# Altium integrated library Analog Devices Data Converters Analog-to-Digital Converters.IntLib: 2400 symbols (part 241 of 338)
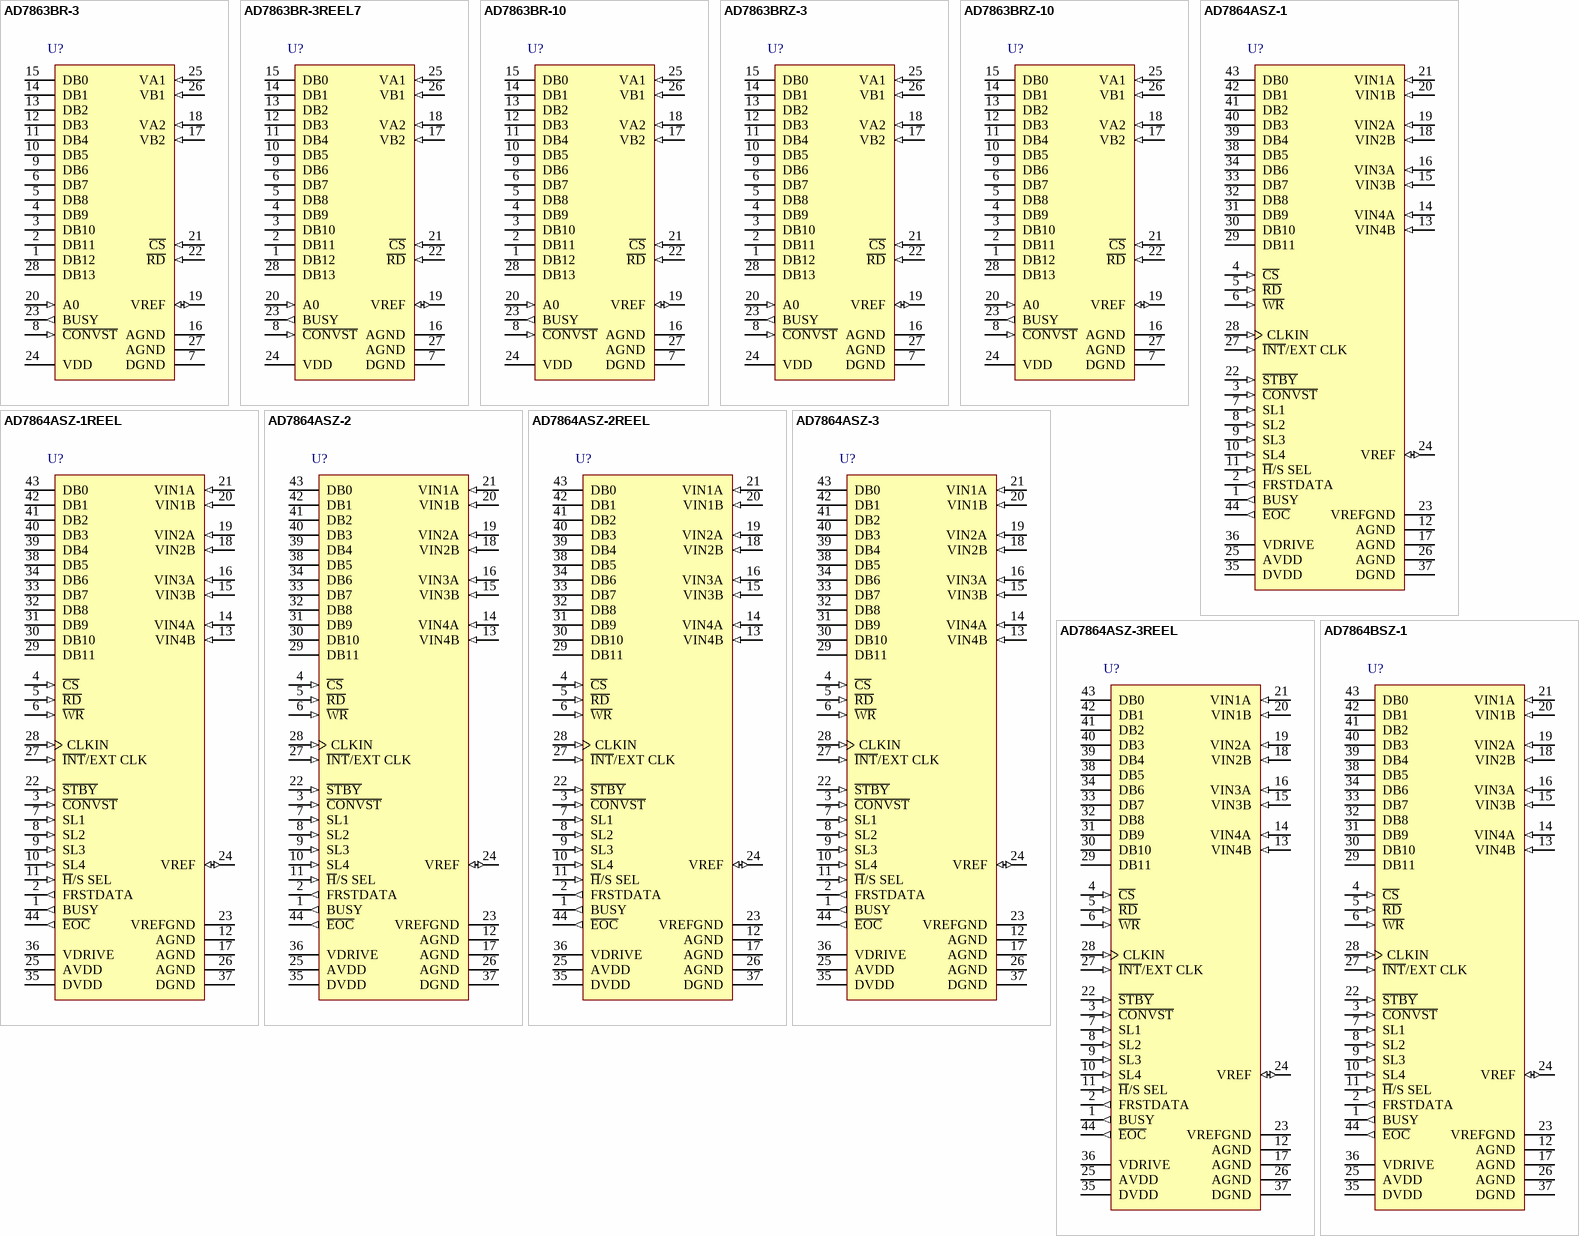
[diagram p286: symbols AD7863BR-3 to AD7864BSZ-1]

## AD7863BR-3REEL7
designator U?
Quad 14-Bit Analog-to-Digital Converter with Parallel Interface, Simultaneous Sampling, 175KSPS, 0 to +70 degC, RW-28, Reel; Part Number: AD7863; Manufacturer: Analog Devices; Resolution (Bits): 14; Channels: 4; Throughput Rate (SPS): 175K; Interface: Par; DatasheetVersion: Rev.B; PackageVersion: 060706-A; PackageReference: RW-28; PackageDescription: 28-Lead Standard Small Outline Package [SOIC_W]; RoHS: N; Packing: Reel; Mounting Technology: Surface Mount; Code_JEDEC: MS-013-AE; ComponentLink1Description: Manufacturer URL; ComponentLink1URL: http://www.analog.com/en/index.html; ComponentLink2Description: Datasheet; ComponentLink2URL: http://www.analog.com/static/imported-files/data_sheets/AD7863.pdf; ComponentLink3Description: Package Specification; ComponentLink3URL: http://www.analog.com/static/imported-files/packages/35833120341221RW_28.pdf; ComponentLink4Description: Product URL; ComponentLink4URL: http://www.analog.com/en/analog-to-digital-converters/ad-converters/ad7863/products/product.html
footprint RW-28_N (SOIC, 28-Leads, Body 17.9x7.5mm, Pitch 1.27mm, IPC Medium Density)
footprint RW-28_L (SOIC, 28-Leads, Body 17.9x7.5mm, Pitch 1.27mm, IPC High Density)
footprint RW-28_M (SOIC, 28-Leads, Body 17.9x7.5mm, Pitch 1.27mm, IPC Low Density)
pins: 1 DB12 (hiz) "Data Bit 12 to Data Bit 7. Three-state TTL outputs.", 2 DB11 (hiz) "Data Bit 12 to Data Bit 7. Three-state TTL outputs.", 3 DB10 (hiz) "Data Bit 12 to Data Bit 7. Three-state TTL outputs.", 4 DB9 (hiz) "Data Bit 12 to Data Bit 7. Three-state TTL outputs.", 5 DB8 (hiz) "Data Bit 12 to Data Bit 7. Three-state TTL outputs.", 6 DB7 (hiz) "Data Bit 12 to Data Bit 7. Three-state TTL outputs.", 7 DGND (power) "Digital Ground. Ground reference for digital circuitry.", 8 ~{CONVST} (in) "Convert Start Input. Logic input. A high-to-low transition on this input puts both track/holds into their hold mode and starts conversion on both channels.", 9 DB6 (hiz) "Data Bit 6 to Data Bit 0. Three-state TTL outputs.", 10 DB5 (hiz) "Data Bit 6 to Data Bit 0. Three-state TTL outputs.", 11 DB4 (hiz) "Data Bit 6 to Data Bit 0. Three-state TTL outputs.", 12 DB3 (hiz) "Data Bit 6 to Data Bit 0. Three-state TTL outputs.", 13 DB2 (hiz) "Data Bit 6 to Data Bit 0. Three-state TTL outputs.", 14 DB1 (hiz) "Data Bit 6 to Data Bit 0. Three-state TTL outputs.", 15 DB0 (hiz) "Data Bit 6 to Data Bit 0. Three-state TTL outputs.", 16 AGND (power) "Analog Ground. Ground reference for mux, track/hold, reference, and DAC circuitry.", 17 VB2 (in) "Input Number 2 of Channel B. Analog input voltage ranges of +/-10 V (AD7863-10), +/-2.5 V (AD7863-3), and 0 V to 2.5 V (AD7863-2).", 18 VA2 (in) "Input Number 2 of Channel A. Analog input voltage ranges of +/-10 V (AD7863-10), +/-2.5 V (AD7863-3), and 0 V to 2.5 V (AD7863-2).", 19 VREF (io) "Reference Input/Output. This pin is connected to the internal reference through a series resistor and is the output reference source for the analog-to-digital converter. The nominal reference voltage is 2.5 V, and this (See Datasheet)", 20 A0 (in) "Multiplexer Select. This input is used in conjunction with C\O\N\V\S\T\  to determine on which pair of channels the conversion is to be performed. If A0 is low when the conversion is initiated, then channels VA1 and VA2 are (See Datasheet)", 21 ~{CS} (in) "Chip Select Input. Active low logic input. The device is selected when this input is active.", 22 ~{RD} (in) "Read Input. Active low logic input. This input is used in conjunction with C\S\  low to enable the data outputs and read a conversion result from the AD7863.", 23 BUSY (out) "Busy Output. The busy output is triggered high by the falling edge of C\O\N\V\S\T\  and remains high until conversion is completed.", 24 VDD (power) "Analog and Digital Positive Supply Voltage, 5.0 V +/- 5%.", 25 VA1 (in) "Input Number 1 of Channel A. Analog input voltage ranges of +/-10 V (AD7863-10), +/-2.5 V (AD7863-3), and 0 V to 2.5 V (AD7863-2).", 26 VB1 (in) "Input Number 1 of Channel B. Analog input voltage ranges of +/-10 V (AD7863-10), +/-2.5 V (AD7863-3), and 0 V to 2.5 V (AD7863-2).", 27 AGND (power) "Analog Ground. Ground reference for mux, track/hold, reference, and DAC circuitry.", 28 DB13 (hiz) "Data Bit 13 (MSB). Three-state TTL output. Output coding is twos complement for the AD7863-10 and AD7863-3. Output coding is straight (natural) binary for the AD7863-2."

## AD7863BR-10
designator U?
Quad 14-Bit Analog-to-Digital Converter with Parallel Interface, Simultaneous Sampling, 175KSPS, -40 to +85 degC, RW-28, Tube; Part Number: AD7863; Manufacturer: Analog Devices; Resolution (Bits): 14; Channels: 4; Throughput Rate (SPS): 175K; Interface: Par; DatasheetVersion: Rev.B; PackageVersion: 060706-A; PackageReference: RW-28; PackageDescription: 28-Lead Standard Small Outline Package [SOIC_W]; RoHS: N; Packing: Tube; Mounting Technology: Surface Mount; Code_JEDEC: MS-013-AE; ComponentLink1Description: Manufacturer URL; ComponentLink1URL: http://www.analog.com/en/index.html; ComponentLink2Description: Datasheet; ComponentLink2URL: http://www.analog.com/static/imported-files/data_sheets/AD7863.pdf; ComponentLink3Description: Package Specification; ComponentLink3URL: http://www.analog.com/static/imported-files/packages/35833120341221RW_28.pdf; ComponentLink4Description: Product URL; ComponentLink4URL: http://www.analog.com/en/analog-to-digital-converters/ad-converters/ad7863/products/product.html
footprint RW-28_N (SOIC, 28-Leads, Body 17.9x7.5mm, Pitch 1.27mm, IPC Medium Density)
footprint RW-28_L (SOIC, 28-Leads, Body 17.9x7.5mm, Pitch 1.27mm, IPC High Density)
footprint RW-28_M (SOIC, 28-Leads, Body 17.9x7.5mm, Pitch 1.27mm, IPC Low Density)
pins: 1 DB12 (hiz) "Data Bit 12 to Data Bit 7. Three-state TTL outputs.", 2 DB11 (hiz) "Data Bit 12 to Data Bit 7. Three-state TTL outputs.", 3 DB10 (hiz) "Data Bit 12 to Data Bit 7. Three-state TTL outputs.", 4 DB9 (hiz) "Data Bit 12 to Data Bit 7. Three-state TTL outputs.", 5 DB8 (hiz) "Data Bit 12 to Data Bit 7. Three-state TTL outputs.", 6 DB7 (hiz) "Data Bit 12 to Data Bit 7. Three-state TTL outputs.", 7 DGND (power) "Digital Ground. Ground reference for digital circuitry.", 8 ~{CONVST} (in) "Convert Start Input. Logic input. A high-to-low transition on this input puts both track/holds into their hold mode and starts conversion on both channels.", 9 DB6 (hiz) "Data Bit 6 to Data Bit 0. Three-state TTL outputs.", 10 DB5 (hiz) "Data Bit 6 to Data Bit 0. Three-state TTL outputs.", 11 DB4 (hiz) "Data Bit 6 to Data Bit 0. Three-state TTL outputs.", 12 DB3 (hiz) "Data Bit 6 to Data Bit 0. Three-state TTL outputs.", 13 DB2 (hiz) "Data Bit 6 to Data Bit 0. Three-state TTL outputs.", 14 DB1 (hiz) "Data Bit 6 to Data Bit 0. Three-state TTL outputs.", 15 DB0 (hiz) "Data Bit 6 to Data Bit 0. Three-state TTL outputs.", 16 AGND (power) "Analog Ground. Ground reference for mux, track/hold, reference, and DAC circuitry.", 17 VB2 (in) "Input Number 2 of Channel B. Analog input voltage ranges of +/-10 V (AD7863-10), +/-2.5 V (AD7863-3), and 0 V to 2.5 V (AD7863-2).", 18 VA2 (in) "Input Number 2 of Channel A. Analog input voltage ranges of +/-10 V (AD7863-10), +/-2.5 V (AD7863-3), and 0 V to 2.5 V (AD7863-2).", 19 VREF (io) "Reference Input/Output. This pin is connected to the internal reference through a series resistor and is the output reference source for the analog-to-digital converter. The nominal reference voltage is 2.5 V, and this (See Datasheet)", 20 A0 (in) "Multiplexer Select. This input is used in conjunction with C\O\N\V\S\T\  to determine on which pair of channels the conversion is to be performed. If A0 is low when the conversion is initiated, then channels VA1 and VA2 are (See Datasheet)", 21 ~{CS} (in) "Chip Select Input. Active low logic input. The device is selected when this input is active.", 22 ~{RD} (in) "Read Input. Active low logic input. This input is used in conjunction with C\S\  low to enable the data outputs and read a conversion result from the AD7863.", 23 BUSY (out) "Busy Output. The busy output is triggered high by the falling edge of C\O\N\V\S\T\  and remains high until conversion is completed.", 24 VDD (power) "Analog and Digital Positive Supply Voltage, 5.0 V +/- 5%.", 25 VA1 (in) "Input Number 1 of Channel A. Analog input voltage ranges of +/-10 V (AD7863-10), +/-2.5 V (AD7863-3), and 0 V to 2.5 V (AD7863-2).", 26 VB1 (in) "Input Number 1 of Channel B. Analog input voltage ranges of +/-10 V (AD7863-10), +/-2.5 V (AD7863-3), and 0 V to 2.5 V (AD7863-2).", 27 AGND (power) "Analog Ground. Ground reference for mux, track/hold, reference, and DAC circuitry.", 28 DB13 (hiz) "Data Bit 13 (MSB). Three-state TTL output. Output coding is twos complement for the AD7863-10 and AD7863-3. Output coding is straight (natural) binary for the AD7863-2."

## AD7863BRZ-3
designator U?
Quad 14-Bit Analog-to-Digital Converter with Parallel Interface, Simultaneous Sampling, 175KSPS, -40 to +85 degC, RW-28, Pb-Free, Tube; Part Number: AD7863; Manufacturer: Analog Devices; Resolution (Bits): 14; Channels: 4; Throughput Rate (SPS): 175K; Interface: Par; DatasheetVersion: Rev.B; PackageVersion: 060706-A; PackageReference: RW-28; PackageDescription: 28-Lead Standard Small Outline Package [SOIC_W]; RoHS: Y; Packing: Tube; Mounting Technology: Surface Mount; Code_JEDEC: MS-013-AE; ComponentLink1Description: Manufacturer URL; ComponentLink1URL: http://www.analog.com/en/index.html; ComponentLink2Description: Datasheet; ComponentLink2URL: http://www.analog.com/static/imported-files/data_sheets/AD7863.pdf; ComponentLink3Description: Package Specification; ComponentLink3URL: http://www.analog.com/static/imported-files/packages/35833120341221RW_28.pdf; ComponentLink4Description: Product URL; ComponentLink4URL: http://www.analog.com/en/analog-to-digital-converters/ad-converters/ad7863/products/product.html
footprint RW-28_N (SOIC, 28-Leads, Body 17.9x7.5mm, Pitch 1.27mm, IPC Medium Density)
footprint RW-28_L (SOIC, 28-Leads, Body 17.9x7.5mm, Pitch 1.27mm, IPC High Density)
footprint RW-28_M (SOIC, 28-Leads, Body 17.9x7.5mm, Pitch 1.27mm, IPC Low Density)
pins: 1 DB12 (hiz) "Data Bit 12 to Data Bit 7. Three-state TTL outputs.", 2 DB11 (hiz) "Data Bit 12 to Data Bit 7. Three-state TTL outputs.", 3 DB10 (hiz) "Data Bit 12 to Data Bit 7. Three-state TTL outputs.", 4 DB9 (hiz) "Data Bit 12 to Data Bit 7. Three-state TTL outputs.", 5 DB8 (hiz) "Data Bit 12 to Data Bit 7. Three-state TTL outputs.", 6 DB7 (hiz) "Data Bit 12 to Data Bit 7. Three-state TTL outputs.", 7 DGND (power) "Digital Ground. Ground reference for digital circuitry.", 8 ~{CONVST} (in) "Convert Start Input. Logic input. A high-to-low transition on this input puts both track/holds into their hold mode and starts conversion on both channels.", 9 DB6 (hiz) "Data Bit 6 to Data Bit 0. Three-state TTL outputs.", 10 DB5 (hiz) "Data Bit 6 to Data Bit 0. Three-state TTL outputs.", 11 DB4 (hiz) "Data Bit 6 to Data Bit 0. Three-state TTL outputs.", 12 DB3 (hiz) "Data Bit 6 to Data Bit 0. Three-state TTL outputs.", 13 DB2 (hiz) "Data Bit 6 to Data Bit 0. Three-state TTL outputs.", 14 DB1 (hiz) "Data Bit 6 to Data Bit 0. Three-state TTL outputs.", 15 DB0 (hiz) "Data Bit 6 to Data Bit 0. Three-state TTL outputs.", 16 AGND (power) "Analog Ground. Ground reference for mux, track/hold, reference, and DAC circuitry.", 17 VB2 (in) "Input Number 2 of Channel B. Analog input voltage ranges of +/-10 V (AD7863-10), +/-2.5 V (AD7863-3), and 0 V to 2.5 V (AD7863-2).", 18 VA2 (in) "Input Number 2 of Channel A. Analog input voltage ranges of +/-10 V (AD7863-10), +/-2.5 V (AD7863-3), and 0 V to 2.5 V (AD7863-2).", 19 VREF (io) "Reference Input/Output. This pin is connected to the internal reference through a series resistor and is the output reference source for the analog-to-digital converter. The nominal reference voltage is 2.5 V, and this (See Datasheet)", 20 A0 (in) "Multiplexer Select. This input is used in conjunction with C\O\N\V\S\T\  to determine on which pair of channels the conversion is to be performed. If A0 is low when the conversion is initiated, then channels VA1 and VA2 are (See Datasheet)", 21 ~{CS} (in) "Chip Select Input. Active low logic input. The device is selected when this input is active.", 22 ~{RD} (in) "Read Input. Active low logic input. This input is used in conjunction with C\S\  low to enable the data outputs and read a conversion result from the AD7863.", 23 BUSY (out) "Busy Output. The busy output is triggered high by the falling edge of C\O\N\V\S\T\  and remains high until conversion is completed.", 24 VDD (power) "Analog and Digital Positive Supply Voltage, 5.0 V +/- 5%.", 25 VA1 (in) "Input Number 1 of Channel A. Analog input voltage ranges of +/-10 V (AD7863-10), +/-2.5 V (AD7863-3), and 0 V to 2.5 V (AD7863-2).", 26 VB1 (in) "Input Number 1 of Channel B. Analog input voltage ranges of +/-10 V (AD7863-10), +/-2.5 V (AD7863-3), and 0 V to 2.5 V (AD7863-2).", 27 AGND (power) "Analog Ground. Ground reference for mux, track/hold, reference, and DAC circuitry.", 28 DB13 (hiz) "Data Bit 13 (MSB). Three-state TTL output. Output coding is twos complement for the AD7863-10 and AD7863-3. Output coding is straight (natural) binary for the AD7863-2."

## AD7863BRZ-10
designator U?
Quad 14-Bit Analog-to-Digital Converter with Parallel Interface, Simultaneous Sampling, 175KSPS, -40 to +85 degC, RW-28, Pb-Free, Tube; Part Number: AD7863; Manufacturer: Analog Devices; Resolution (Bits): 14; Channels: 4; Throughput Rate (SPS): 175K; Interface: Par; DatasheetVersion: Rev.B; PackageVersion: 060706-A; PackageReference: RW-28; PackageDescription: 28-Lead Standard Small Outline Package [SOIC_W]; RoHS: Y; Packing: Tube; Mounting Technology: Surface Mount; Code_JEDEC: MS-013-AE; ComponentLink1Description: Manufacturer URL; ComponentLink1URL: http://www.analog.com/en/index.html; ComponentLink2Description: Datasheet; ComponentLink2URL: http://www.analog.com/static/imported-files/data_sheets/AD7863.pdf; ComponentLink3Description: Package Specification; ComponentLink3URL: http://www.analog.com/static/imported-files/packages/35833120341221RW_28.pdf; ComponentLink4Description: Product URL; ComponentLink4URL: http://www.analog.com/en/analog-to-digital-converters/ad-converters/ad7863/products/product.html
footprint RW-28_N (SOIC, 28-Leads, Body 17.9x7.5mm, Pitch 1.27mm, IPC Medium Density)
footprint RW-28_L (SOIC, 28-Leads, Body 17.9x7.5mm, Pitch 1.27mm, IPC High Density)
footprint RW-28_M (SOIC, 28-Leads, Body 17.9x7.5mm, Pitch 1.27mm, IPC Low Density)
pins: 1 DB12 (hiz) "Data Bit 12 to Data Bit 7. Three-state TTL outputs.", 2 DB11 (hiz) "Data Bit 12 to Data Bit 7. Three-state TTL outputs.", 3 DB10 (hiz) "Data Bit 12 to Data Bit 7. Three-state TTL outputs.", 4 DB9 (hiz) "Data Bit 12 to Data Bit 7. Three-state TTL outputs.", 5 DB8 (hiz) "Data Bit 12 to Data Bit 7. Three-state TTL outputs.", 6 DB7 (hiz) "Data Bit 12 to Data Bit 7. Three-state TTL outputs.", 7 DGND (power) "Digital Ground. Ground reference for digital circuitry.", 8 ~{CONVST} (in) "Convert Start Input. Logic input. A high-to-low transition on this input puts both track/holds into their hold mode and starts conversion on both channels.", 9 DB6 (hiz) "Data Bit 6 to Data Bit 0. Three-state TTL outputs.", 10 DB5 (hiz) "Data Bit 6 to Data Bit 0. Three-state TTL outputs.", 11 DB4 (hiz) "Data Bit 6 to Data Bit 0. Three-state TTL outputs.", 12 DB3 (hiz) "Data Bit 6 to Data Bit 0. Three-state TTL outputs.", 13 DB2 (hiz) "Data Bit 6 to Data Bit 0. Three-state TTL outputs.", 14 DB1 (hiz) "Data Bit 6 to Data Bit 0. Three-state TTL outputs.", 15 DB0 (hiz) "Data Bit 6 to Data Bit 0. Three-state TTL outputs.", 16 AGND (power) "Analog Ground. Ground reference for mux, track/hold, reference, and DAC circuitry.", 17 VB2 (in) "Input Number 2 of Channel B. Analog input voltage ranges of +/-10 V (AD7863-10), +/-2.5 V (AD7863-3), and 0 V to 2.5 V (AD7863-2).", 18 VA2 (in) "Input Number 2 of Channel A. Analog input voltage ranges of +/-10 V (AD7863-10), +/-2.5 V (AD7863-3), and 0 V to 2.5 V (AD7863-2).", 19 VREF (io) "Reference Input/Output. This pin is connected to the internal reference through a series resistor and is the output reference source for the analog-to-digital converter. The nominal reference voltage is 2.5 V, and this (See Datasheet)", 20 A0 (in) "Multiplexer Select. This input is used in conjunction with C\O\N\V\S\T\  to determine on which pair of channels the conversion is to be performed. If A0 is low when the conversion is initiated, then channels VA1 and VA2 are (See Datasheet)", 21 ~{CS} (in) "Chip Select Input. Active low logic input. The device is selected when this input is active.", 22 ~{RD} (in) "Read Input. Active low logic input. This input is used in conjunction with C\S\  low to enable the data outputs and read a conversion result from the AD7863.", 23 BUSY (out) "Busy Output. The busy output is triggered high by the falling edge of C\O\N\V\S\T\  and remains high until conversion is completed.", 24 VDD (power) "Analog and Digital Positive Supply Voltage, 5.0 V +/- 5%.", 25 VA1 (in) "Input Number 1 of Channel A. Analog input voltage ranges of +/-10 V (AD7863-10), +/-2.5 V (AD7863-3), and 0 V to 2.5 V (AD7863-2).", 26 VB1 (in) "Input Number 1 of Channel B. Analog input voltage ranges of +/-10 V (AD7863-10), +/-2.5 V (AD7863-3), and 0 V to 2.5 V (AD7863-2).", 27 AGND (power) "Analog Ground. Ground reference for mux, track/hold, reference, and DAC circuitry.", 28 DB13 (hiz) "Data Bit 13 (MSB). Three-state TTL output. Output coding is twos complement for the AD7863-10 and AD7863-3. Output coding is straight (natural) binary for the AD7863-2."

## AD7864ASZ-1
designator U?
Quad 12-Bit Analog-to-Digital Converter with Parallel Interface, Simultaneous Sampling, 520KSPS, -40 to +85 degC, S-44-2, Pb-Free, Tray; Part Number: AD7864; Manufacturer: Analog Devices; Resolution (Bits): 12; Channels: 4; Throughput Rate (SPS): 520K; Interface: Par; DatasheetVersion: Rev.D; PackageVersion: 041807-A; PackageReference: S-44-2; PackageDescription: 44-Lead Metric Quad Flat Package [MQFP]; RoHS: Y; Packing: Tray; Mounting Technology: Surface Mount; Code_JEDEC: MO-122-AA-1; ComponentLink1Description: Manufacturer URL; ComponentLink1URL: http://www.analog.com/en/index.html; ComponentLink2Description: Datasheet; ComponentLink2URL: http://www.analog.com/static/imported-files/data_sheets/AD7864.pdf; ComponentLink3Description: Package Specification; ComponentLink3URL: http://www.analog.com/static/imported-files/packages/209183S_44_2.pdf; ComponentLink4Description: Product URL; ComponentLink4URL: http://www.analog.com/en/analog-to-digital-converters/ad-converters/ad7864/products/product.html
footprint S-44-2_N (QFP, 44-Leads, Body 10x10mm, Pitch 0.8mm, IPC Medium Density)
footprint S-44-2_L (QFP, 44-Leads, Body 10x10mm, Pitch 0.8mm, IPC High Density)
footprint S-44-2_M (QFP, 44-Leads, Body 10x10mm, Pitch 0.8mm, IPC Low Density)
pins: 1 BUSY (out) "Busy Output. The busy output is triggered high by the rising edge of C\O\N\V\S\T\ and remains high until conversion is completed on all selected channels.", 2 FRSTDATA (out) "First Data Output. FRSTDATA is a logic output which, when high, indicates that the output data register pointer is addressing Register 1--see the Accessing the Output Data Registers section.", 3 ~{CONVST} (in) "Convert Start Input. Logic input. A low-to-high transition on this input puts all track-and-holds into their hold mode and starts conversion on the selected channels. In addition, the state of the channel sequence selection (See Datasheet)", 4 ~{CS} (in) "Chip Select Input. Active low logic input. The device is selected when this input is active.", 5 ~{RD} (in) "Read Input. Active low logic input that is used in conjunction with C\S\ low to enable the data outputs. Ensure the W\R\ pin is at logic high while performing a read operation.", 6 ~{WR} (in) "Write Input. A rising edge on the W\R\ input, with C\S\ low and R\D\ high, latches the logic state on DB0 to DB3 into the channel select register.", 7 SL1 (in) "Hardware Channel Select. Conversion sequence selection can also be made via the SL1 pins if H\/S SEL is Logic 0. The selection is latched on the rising edge of C\O\N\V\S\T\.See the section.Selecting a Conversion Sequence (See Datasheet)", 8 SL2 (in) "Hardware Channel Select. Conversion sequence selection can also be made via the SL2 pins if H\/S SEL is Logic 0. The selection is latched on the rising edge of C\O\N\V\S\T\.See the section.Selecting a Conversion Sequenc (See Datasheet)", 9 SL3 (in) "Hardware Channel Select. Conversion sequence selection can also be made via the SL3 pins if H\/S SEL is Logic 0. The selection is latched on the rising edge of C\O\N\V\S\T\.See the section.Selecting a Conversion Sequenc (See Datasheet)", 10 SL4 (in) "Hardware Channel Select. Conversion sequence selection can also be made via the SL4 pins if H\/S SEL is Logic 0. The selection is latched on the rising edge of C\O\N\V\S\T\.See the section. Selecting a Conversion Sequenc (See Datasheet)", 11 ~{H}/S SEL (in) "Hardware/Software Select Input. When this pin is at Logic 0, the AD7864 conversion sequence selection is controlled via the SL1 to SL4 input pins. When this pin is at Logic 1, the sequence is controlled via the channel (See Datasheet)", 12 AGND (power) "Analog Ground. General analog ground. Connect this AGND pin to the AGND plane of the system.", 13 VIN4B (in) "Analog Inputs. See the Analog Input section.", 14 VIN4A (in) "Analog Inputs. See the Analog Input section.", 15 VIN3B (in) "Analog Inputs. See the Analog Input section.", 16 VIN3A (in) "Analog Inputs. See the Analog Input section.", 17 AGND (power) "Analog Ground. Analog ground reference for the attenuator circuitry. Connect this AGND pin to the AGND plane of the system.", 18 VIN2B (in) "Analog Inputs. See the Analog Input section.", 19 VIN2A (in) "Analog Inputs. See the Analog Input section.", 20 VIN1B (in) "Analog Inputs. See the Analog Input section.", 21 VIN1A (in) "Analog Inputs. See the Analog Input section.", 22 ~{STBY} (in) "Standby Mode Input. TTL-compatible input that is used to put the device into the power save or standby mode.The S\T\B\Y\ input is high for normal operation and low for standby operation.", 23 VREFGND (power) "Reference Ground. This is the ground reference for the on-chip reference buffer of the part. Connect the VREFGND pin to the AGND plane of the system.", 24 VREF (io) "Reference Input/Output. This pin provides access to the internal reference (2.5 V +/- 5%) and also allows the internal reference to be overdriven by an external reference source (2.5 V). Connect a 0.1 uF decoupling capacitor (See Datasheet)", 25 AVDD (power) "Analog Positive Supply Voltage, 5.0 V +/- 5%.", 26 AGND (power) "Analog Ground. Analog ground reference for the DAC circuitry.", 27 ~{INT}/EXT CLK (in) "Internal/External Clock Select Input. When this pin is at Logic 0, the AD7864 uses its internally generated master clock. When this pin is at Logic 1, the master clock is generated externally to the device.", 28 CLKIN (in) "Conversion Clock Input. This is an externally applied clock that allows the user to control the conversion rate of the AD7864. Each conversion needs 14 clock cycles for the conversion to be completed and an E\O\C\ pulse to (See Datasheet)", 29 DB11 (hiz) "Data Bit 11 is the MSB, followed by Data Bit 10 to Data Bit 6. Three-state TTL outputs. Output coding is twos complement for the AD7864-1 and AD7864-3. Output coding is straight (natural) binary for the AD7864-2.", 30 DB10 (hiz) "Data Bit 11 is the MSB, followed by Data Bit 10 to Data Bit 6. Three-state TTL outputs. Output coding is twos complement for the AD7864-1 and AD7864-3. Output coding is straight (natural) binary for the AD7864-2.", 31 DB9 (hiz) "Data Bit 11 is the MSB, followed by Data Bit 10 to Data Bit 6. Three-state TTL outputs. Output coding is twos complement for the AD7864-1 and AD7864-3. Output coding is straight (natural) binary for the AD7864-2.", 32 DB8 (hiz) "Data Bit 11 is the MSB, followed by Data Bit 10 to Data Bit 6. Three-state TTL outputs. Output coding is twos complement for the AD7864-1 and AD7864-3. Output coding is straight (natural) binary for the AD7864-2.", 33 DB7 (hiz) "Data Bit 11 is the MSB, followed by Data Bit 10 to Data Bit 6. Three-state TTL outputs. Output coding is twos complement for the AD7864-1 and AD7864-3. Output coding is straight (natural) binary for the AD7864-2.", 34 DB6 (hiz) "Data Bit 11 is the MSB, followed by Data Bit 10 to Data Bit 6. Three-state TTL outputs. Output coding is twos complement for the AD7864-1 and AD7864-3. Output coding is straight (natural) binary for the AD7864-2.", 35 DVDD (power) "Positive Supply Voltage for Digital Section, 5.0 V +/- 5%. Connect a 0.1 uF decoupling capacitor between this pin and AGND. Both DVDD and AVDD should be externally tied together.", 36 VDRIVE (power) "This pin provides the positive supply voltage for the output drivers (DB0 to DB11), BUSY, E\O\C\, and FRSTDATA. It is normally tied to DVDD. Decouple VDRIVE with a 0.1 uF capacitor to improve performance when reading during (See Datasheet)", 37 DGND (power) "Digital Ground. This is the ground reference for digital circuitry. Connect this DGND pin to the AGND plane of the system at the AGND pin.", 38 DB5 (hiz) "Data Bit 5. Three-state TTL outputs.", 39 DB4 (hiz) "Data Bit 4. Three-state TTL outputs.", 40 DB3 (hiz) "Data Bit 3. Bidirectional data pins. When a read operation takes place, these pins are three-state TTL outputs. The channel select register is programmed with the data on the DB0 to DB3 pins with standard C\S\ and W\R\ (See Datasheet)", 41 DB2 (hiz) "Data Bit 2. Bidirectional data pins. When a read operation takes place, these pins are three-state TTL outputs. The channel select register is programmed with the data on the DB0 to DB3 pins with standard C\S\ and W\R\ (See Datasheet)", 42 DB1 (hiz) "Data Bit 1. Bidirectional data pins. When a read operation takes place, these pins are three-state TTL outputs. The channel select register is programmed with the data on the DB0 to DB3 pins with standard C\S\ and W\R\ (See Datasheet)", 43 DB0 (hiz) "Data Bit 0. Bidirectional data pins. When a read operation takes place, these pins are three-state TTL outputs. The channel select register is programmed with the data on the DB0 to DB3 pins with standard C\S\ and W\R\ (See Datasheet)", 44 ~{EOC} (out) "End-of-Conversion. Active low logic output indicating conversion status. The end of each conversion in a conversion sequence is indicated by a low-going pulse on this line."

## AD7864ASZ-1REEL
designator U?
Quad 12-Bit Analog-to-Digital Converter with Parallel Interface, Simultaneous Sampling, 520KSPS, -40 to +85 degC, S-44-2, Pb-Free, Reel; Part Number: AD7864; Manufacturer: Analog Devices; Resolution (Bits): 12; Channels: 4; Throughput Rate (SPS): 520K; Interface: Par; DatasheetVersion: Rev.D; PackageVersion: 041807-A; PackageReference: S-44-2; PackageDescription: 44-Lead Metric Quad Flat Package [MQFP]; RoHS: Y; Packing: Reel; Mounting Technology: Surface Mount; Code_JEDEC: MO-122-AA-1; ComponentLink1Description: Manufacturer URL; ComponentLink1URL: http://www.analog.com/en/index.html; ComponentLink2Description: Datasheet; ComponentLink2URL: http://www.analog.com/static/imported-files/data_sheets/AD7864.pdf; ComponentLink3Description: Package Specification; ComponentLink3URL: http://www.analog.com/static/imported-files/packages/209183S_44_2.pdf; ComponentLink4Description: Product URL; ComponentLink4URL: http://www.analog.com/en/analog-to-digital-converters/ad-converters/ad7864/products/product.html
footprint S-44-2_N (QFP, 44-Leads, Body 10x10mm, Pitch 0.8mm, IPC Medium Density)
footprint S-44-2_L (QFP, 44-Leads, Body 10x10mm, Pitch 0.8mm, IPC High Density)
footprint S-44-2_M (QFP, 44-Leads, Body 10x10mm, Pitch 0.8mm, IPC Low Density)
pins: 1 BUSY (out) "Busy Output. The busy output is triggered high by the rising edge of C\O\N\V\S\T\ and remains high until conversion is completed on all selected channels.", 2 FRSTDATA (out) "First Data Output. FRSTDATA is a logic output which, when high, indicates that the output data register pointer is addressing Register 1--see the Accessing the Output Data Registers section.", 3 ~{CONVST} (in) "Convert Start Input. Logic input. A low-to-high transition on this input puts all track-and-holds into their hold mode and starts conversion on the selected channels. In addition, the state of the channel sequence selection (See Datasheet)", 4 ~{CS} (in) "Chip Select Input. Active low logic input. The device is selected when this input is active.", 5 ~{RD} (in) "Read Input. Active low logic input that is used in conjunction with C\S\ low to enable the data outputs. Ensure the W\R\ pin is at logic high while performing a read operation.", 6 ~{WR} (in) "Write Input. A rising edge on the W\R\ input, with C\S\ low and R\D\ high, latches the logic state on DB0 to DB3 into the channel select register.", 7 SL1 (in) "Hardware Channel Select. Conversion sequence selection can also be made via the SL1 pins if H\/S SEL is Logic 0. The selection is latched on the rising edge of C\O\N\V\S\T\.See the section.Selecting a Conversion Sequence (See Datasheet)", 8 SL2 (in) "Hardware Channel Select. Conversion sequence selection can also be made via the SL2 pins if H\/S SEL is Logic 0. The selection is latched on the rising edge of C\O\N\V\S\T\.See the section.Selecting a Conversion Sequenc (See Datasheet)", 9 SL3 (in) "Hardware Channel Select. Conversion sequence selection can also be made via the SL3 pins if H\/S SEL is Logic 0. The selection is latched on the rising edge of C\O\N\V\S\T\.See the section.Selecting a Conversion Sequenc (See Datasheet)", 10 SL4 (in) "Hardware Channel Select. Conversion sequence selection can also be made via the SL4 pins if H\/S SEL is Logic 0. The selection is latched on the rising edge of C\O\N\V\S\T\.See the section. Selecting a Conversion Sequenc (See Datasheet)", 11 ~{H}/S SEL (in) "Hardware/Software Select Input. When this pin is at Logic 0, the AD7864 conversion sequence selection is controlled via the SL1 to SL4 input pins. When this pin is at Logic 1, the sequence is controlled via the channel (See Datasheet)", 12 AGND (power) "Analog Ground. General analog ground. Connect this AGND pin to the AGND plane of the system.", 13 VIN4B (in) "Analog Inputs. See the Analog Input section.", 14 VIN4A (in) "Analog Inputs. See the Analog Input section.", 15 VIN3B (in) "Analog Inputs. See the Analog Input section.", 16 VIN3A (in) "Analog Inputs. See the Analog Input section.", 17 AGND (power) "Analog Ground. Analog ground reference for the attenuator circuitry. Connect this AGND pin to the AGND plane of the system.", 18 VIN2B (in) "Analog Inputs. See the Analog Input section.", 19 VIN2A (in) "Analog Inputs. See the Analog Input section.", 20 VIN1B (in) "Analog Inputs. See the Analog Input section.", 21 VIN1A (in) "Analog Inputs. See the Analog Input section.", 22 ~{STBY} (in) "Standby Mode Input. TTL-compatible input that is used to put the device into the power save or standby mode.The S\T\B\Y\ input is high for normal operation and low for standby operation.", 23 VREFGND (power) "Reference Ground. This is the ground reference for the on-chip reference buffer of the part. Connect the VREFGND pin to the AGND plane of the system.", 24 VREF (io) "Reference Input/Output. This pin provides access to the internal reference (2.5 V +/- 5%) and also allows the internal reference to be overdriven by an external reference source (2.5 V). Connect a 0.1 uF decoupling capacitor (See Datasheet)", 25 AVDD (power) "Analog Positive Supply Voltage, 5.0 V +/- 5%.", 26 AGND (power) "Analog Ground. Analog ground reference for the DAC circuitry.", 27 ~{INT}/EXT CLK (in) "Internal/External Clock Select Input. When this pin is at Logic 0, the AD7864 uses its internally generated master clock. When this pin is at Logic 1, the master clock is generated externally to the device.", 28 CLKIN (in) "Conversion Clock Input. This is an externally applied clock that allows the user to control the conversion rate of the AD7864. Each conversion needs 14 clock cycles for the conversion to be completed and an E\O\C\ pulse to (See Datasheet)", 29 DB11 (hiz) "Data Bit 11 is the MSB, followed by Data Bit 10 to Data Bit 6. Three-state TTL outputs. Output coding is twos complement for the AD7864-1 and AD7864-3. Output coding is straight (natural) binary for the AD7864-2.", 30 DB10 (hiz) "Data Bit 11 is the MSB, followed by Data Bit 10 to Data Bit 6. Three-state TTL outputs. Output coding is twos complement for the AD7864-1 and AD7864-3. Output coding is straight (natural) binary for the AD7864-2.", 31 DB9 (hiz) "Data Bit 11 is the MSB, followed by Data Bit 10 to Data Bit 6. Three-state TTL outputs. Output coding is twos complement for the AD7864-1 and AD7864-3. Output coding is straight (natural) binary for the AD7864-2.", 32 DB8 (hiz) "Data Bit 11 is the MSB, followed by Data Bit 10 to Data Bit 6. Three-state TTL outputs. Output coding is twos complement for the AD7864-1 and AD7864-3. Output coding is straight (natural) binary for the AD7864-2.", 33 DB7 (hiz) "Data Bit 11 is the MSB, followed by Data Bit 10 to Data Bit 6. Three-state TTL outputs. Output coding is twos complement for the AD7864-1 and AD7864-3. Output coding is straight (natural) binary for the AD7864-2.", 34 DB6 (hiz) "Data Bit 11 is the MSB, followed by Data Bit 10 to Data Bit 6. Three-state TTL outputs. Output coding is twos complement for the AD7864-1 and AD7864-3. Output coding is straight (natural) binary for the AD7864-2.", 35 DVDD (power) "Positive Supply Voltage for Digital Section, 5.0 V +/- 5%. Connect a 0.1 uF decoupling capacitor between this pin and AGND. Both DVDD and AVDD should be externally tied together.", 36 VDRIVE (power) "This pin provides the positive supply voltage for the output drivers (DB0 to DB11), BUSY, E\O\C\, and FRSTDATA. It is normally tied to DVDD. Decouple VDRIVE with a 0.1 uF capacitor to improve performance when reading during (See Datasheet)", 37 DGND (power) "Digital Ground. This is the ground reference for digital circuitry. Connect this DGND pin to the AGND plane of the system at the AGND pin.", 38 DB5 (hiz) "Data Bit 5. Three-state TTL outputs.", 39 DB4 (hiz) "Data Bit 4. Three-state TTL outputs.", 40 DB3 (hiz) "Data Bit 3. Bidirectional data pins. When a read operation takes place, these pins are three-state TTL outputs. The channel select register is programmed with the data on the DB0 to DB3 pins with standard C\S\ and W\R\ (See Datasheet)", 41 DB2 (hiz) "Data Bit 2. Bidirectional data pins. When a read operation takes place, these pins are three-state TTL outputs. The channel select register is programmed with the data on the DB0 to DB3 pins with standard C\S\ and W\R\ (See Datasheet)", 42 DB1 (hiz) "Data Bit 1. Bidirectional data pins. When a read operation takes place, these pins are three-state TTL outputs. The channel select register is programmed with the data on the DB0 to DB3 pins with standard C\S\ and W\R\ (See Datasheet)", 43 DB0 (hiz) "Data Bit 0. Bidirectional data pins. When a read operation takes place, these pins are three-state TTL outputs. The channel select register is programmed with the data on the DB0 to DB3 pins with standard C\S\ and W\R\ (See Datasheet)", 44 ~{EOC} (out) "End-of-Conversion. Active low logic output indicating conversion status. The end of each conversion in a conversion sequence is indicated by a low-going pulse on this line."

## AD7864ASZ-2
designator U?
Quad 12-Bit Analog-to-Digital Converter with Parallel Interface, Simultaneous Sampling, 520KSPS, -40 to +85 degC, S-44-2, Pb-Free, Tray; Part Number: AD7864; Manufacturer: Analog Devices; Resolution (Bits): 12; Channels: 4; Throughput Rate (SPS): 520K; Interface: Par; DatasheetVersion: Rev.D; PackageVersion: 041807-A; PackageReference: S-44-2; PackageDescription: 44-Lead Metric Quad Flat Package [MQFP]; RoHS: Y; Packing: Tray; Mounting Technology: Surface Mount; Code_JEDEC: MO-122-AA-1; ComponentLink1Description: Manufacturer URL; ComponentLink1URL: http://www.analog.com/en/index.html; ComponentLink2Description: Datasheet; ComponentLink2URL: http://www.analog.com/static/imported-files/data_sheets/AD7864.pdf; ComponentLink3Description: Package Specification; ComponentLink3URL: http://www.analog.com/static/imported-files/packages/209183S_44_2.pdf; ComponentLink4Description: Product URL; ComponentLink4URL: http://www.analog.com/en/analog-to-digital-converters/ad-converters/ad7864/products/product.html
footprint S-44-2_N (QFP, 44-Leads, Body 10x10mm, Pitch 0.8mm, IPC Medium Density)
footprint S-44-2_L (QFP, 44-Leads, Body 10x10mm, Pitch 0.8mm, IPC High Density)
footprint S-44-2_M (QFP, 44-Leads, Body 10x10mm, Pitch 0.8mm, IPC Low Density)
pins: 1 BUSY (out) "Busy Output. The busy output is triggered high by the rising edge of C\O\N\V\S\T\ and remains high until conversion is completed on all selected channels.", 2 FRSTDATA (out) "First Data Output. FRSTDATA is a logic output which, when high, indicates that the output data register pointer is addressing Register 1--see the Accessing the Output Data Registers section.", 3 ~{CONVST} (in) "Convert Start Input. Logic input. A low-to-high transition on this input puts all track-and-holds into their hold mode and starts conversion on the selected channels. In addition, the state of the channel sequence selection (See Datasheet)", 4 ~{CS} (in) "Chip Select Input. Active low logic input. The device is selected when this input is active.", 5 ~{RD} (in) "Read Input. Active low logic input that is used in conjunction with C\S\ low to enable the data outputs. Ensure the W\R\ pin is at logic high while performing a read operation.", 6 ~{WR} (in) "Write Input. A rising edge on the W\R\ input, with C\S\ low and R\D\ high, latches the logic state on DB0 to DB3 into the channel select register.", 7 SL1 (in) "Hardware Channel Select. Conversion sequence selection can also be made via the SL1 pins if H\/S SEL is Logic 0. The selection is latched on the rising edge of C\O\N\V\S\T\.See the section.Selecting a Conversion Sequence (See Datasheet)", 8 SL2 (in) "Hardware Channel Select. Conversion sequence selection can also be made via the SL2 pins if H\/S SEL is Logic 0. The selection is latched on the rising edge of C\O\N\V\S\T\.See the section.Selecting a Conversion Sequenc (See Datasheet)", 9 SL3 (in) "Hardware Channel Select. Conversion sequence selection can also be made via the SL3 pins if H\/S SEL is Logic 0. The selection is latched on the rising edge of C\O\N\V\S\T\.See the section.Selecting a Conversion Sequenc (See Datasheet)", 10 SL4 (in) "Hardware Channel Select. Conversion sequence selection can also be made via the SL4 pins if H\/S SEL is Logic 0. The selection is latched on the rising edge of C\O\N\V\S\T\.See the section. Selecting a Conversion Sequenc (See Datasheet)", 11 ~{H}/S SEL (in) "Hardware/Software Select Input. When this pin is at Logic 0, the AD7864 conversion sequence selection is controlled via the SL1 to SL4 input pins. When this pin is at Logic 1, the sequence is controlled via the channel (See Datasheet)", 12 AGND (power) "Analog Ground. General analog ground. Connect this AGND pin to the AGND plane of the system.", 13 VIN4B (in) "Analog Inputs. See the Analog Input section.", 14 VIN4A (in) "Analog Inputs. See the Analog Input section.", 15 VIN3B (in) "Analog Inputs. See the Analog Input section.", 16 VIN3A (in) "Analog Inputs. See the Analog Input section.", 17 AGND (power) "Analog Ground. Analog ground reference for the attenuator circuitry. Connect this AGND pin to the AGND plane of the system.", 18 VIN2B (in) "Analog Inputs. See the Analog Input section.", 19 VIN2A (in) "Analog Inputs. See the Analog Input section.", 20 VIN1B (in) "Analog Inputs. See the Analog Input section.", 21 VIN1A (in) "Analog Inputs. See the Analog Input section.", 22 ~{STBY} (in) "Standby Mode Input. TTL-compatible input that is used to put the device into the power save or standby mode.The S\T\B\Y\ input is high for normal operation and low for standby operation.", 23 VREFGND (power) "Reference Ground. This is the ground reference for the on-chip reference buffer of the part. Connect the VREFGND pin to the AGND plane of the system.", 24 VREF (io) "Reference Input/Output. This pin provides access to the internal reference (2.5 V +/- 5%) and also allows the internal reference to be overdriven by an external reference source (2.5 V). Connect a 0.1 uF decoupling capacitor (See Datasheet)", 25 AVDD (power) "Analog Positive Supply Voltage, 5.0 V +/- 5%.", 26 AGND (power) "Analog Ground. Analog ground reference for the DAC circuitry.", 27 ~{INT}/EXT CLK (in) "Internal/External Clock Select Input. When this pin is at Logic 0, the AD7864 uses its internally generated master clock. When this pin is at Logic 1, the master clock is generated externally to the device.", 28 CLKIN (in) "Conversion Clock Input. This is an externally applied clock that allows the user to control the conversion rate of the AD7864. Each conversion needs 14 clock cycles for the conversion to be completed and an E\O\C\ pulse to (See Datasheet)", 29 DB11 (hiz) "Data Bit 11 is the MSB, followed by Data Bit 10 to Data Bit 6. Three-state TTL outputs. Output coding is twos complement for the AD7864-1 and AD7864-3. Output coding is straight (natural) binary for the AD7864-2.", 30 DB10 (hiz) "Data Bit 11 is the MSB, followed by Data Bit 10 to Data Bit 6. Three-state TTL outputs. Output coding is twos complement for the AD7864-1 and AD7864-3. Output coding is straight (natural) binary for the AD7864-2.", 31 DB9 (hiz) "Data Bit 11 is the MSB, followed by Data Bit 10 to Data Bit 6. Three-state TTL outputs. Output coding is twos complement for the AD7864-1 and AD7864-3. Output coding is straight (natural) binary for the AD7864-2.", 32 DB8 (hiz) "Data Bit 11 is the MSB, followed by Data Bit 10 to Data Bit 6. Three-state TTL outputs. Output coding is twos complement for the AD7864-1 and AD7864-3. Output coding is straight (natural) binary for the AD7864-2.", 33 DB7 (hiz) "Data Bit 11 is the MSB, followed by Data Bit 10 to Data Bit 6. Three-state TTL outputs. Output coding is twos complement for the AD7864-1 and AD7864-3. Output coding is straight (natural) binary for the AD7864-2.", 34 DB6 (hiz) "Data Bit 11 is the MSB, followed by Data Bit 10 to Data Bit 6. Three-state TTL outputs. Output coding is twos complement for the AD7864-1 and AD7864-3. Output coding is straight (natural) binary for the AD7864-2.", 35 DVDD (power) "Positive Supply Voltage for Digital Section, 5.0 V +/- 5%. Connect a 0.1 uF decoupling capacitor between this pin and AGND. Both DVDD and AVDD should be externally tied together.", 36 VDRIVE (power) "This pin provides the positive supply voltage for the output drivers (DB0 to DB11), BUSY, E\O\C\, and FRSTDATA. It is normally tied to DVDD. Decouple VDRIVE with a 0.1 uF capacitor to improve performance when reading during (See Datasheet)", 37 DGND (power) "Digital Ground. This is the ground reference for digital circuitry. Connect this DGND pin to the AGND plane of the system at the AGND pin.", 38 DB5 (hiz) "Data Bit 5. Three-state TTL outputs.", 39 DB4 (hiz) "Data Bit 4. Three-state TTL outputs.", 40 DB3 (hiz) "Data Bit 3. Bidirectional data pins. When a read operation takes place, these pins are three-state TTL outputs. The channel select register is programmed with the data on the DB0 to DB3 pins with standard C\S\ and W\R\ (See Datasheet)", 41 DB2 (hiz) "Data Bit 2. Bidirectional data pins. When a read operation takes place, these pins are three-state TTL outputs. The channel select register is programmed with the data on the DB0 to DB3 pins with standard C\S\ and W\R\ (See Datasheet)", 42 DB1 (hiz) "Data Bit 1. Bidirectional data pins. When a read operation takes place, these pins are three-state TTL outputs. The channel select register is programmed with the data on the DB0 to DB3 pins with standard C\S\ and W\R\ (See Datasheet)", 43 DB0 (hiz) "Data Bit 0. Bidirectional data pins. When a read operation takes place, these pins are three-state TTL outputs. The channel select register is programmed with the data on the DB0 to DB3 pins with standard C\S\ and W\R\ (See Datasheet)", 44 ~{EOC} (out) "End-of-Conversion. Active low logic output indicating conversion status. The end of each conversion in a conversion sequence is indicated by a low-going pulse on this line."